# Altium footprint library CN_RJ45_VER.PcbLib: 1 footprints
Each footprint in its own frame and in the unit in brackets; x right, y up, seen from the top. Pads: shape width x height; smd on the part's side, far side on the other; paste and mask are expansions set on the pad; w line width, h text height; cw(c..) or ccw(c..) is an arc to the next point about the centre after c.
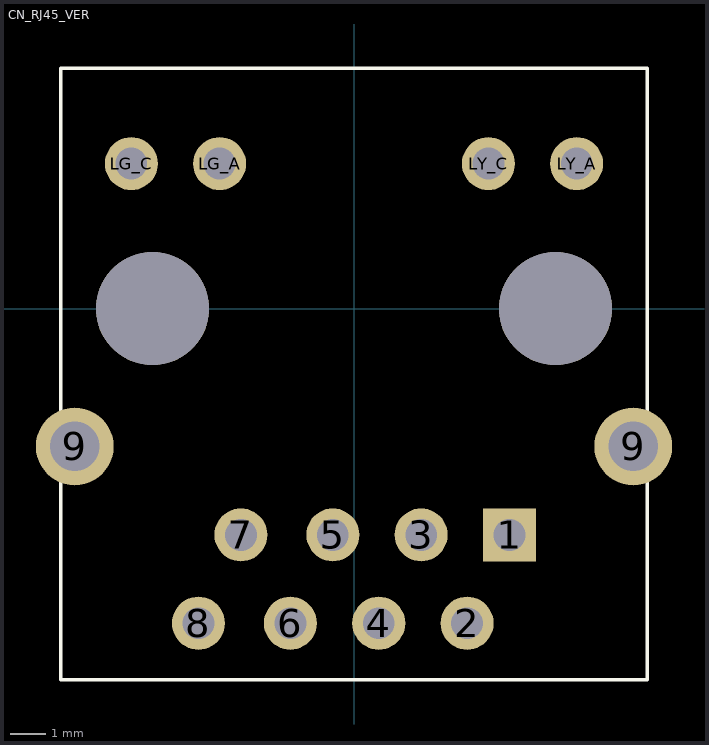
[diagram p0: the footprint, top view; thin cyan lines are the x and y axes]

## CN_RJ45_VER [mm] "Standard RJ45 vertical connector"
pads (16):
  rect 1.5x1.5 hole 0.9: 1(4.4,-6.4)
  round 1.5 hole 0.9: 2(3.2,-8.9) 3(1.9,-6.4) 4(0.7,-8.9) 5(-0.6,-6.4) 6(-1.8,-8.9) 7(-3.2,-6.4) 8(-4.4,-8.9) LG_A(-3.8,4.1) LG_C(-6.3,4.1) LY_A(6.3,4.1) LY_C(3.8,4.1)
  round 2.2 hole 1.4: 9(-7.9,-3.9) 9(7.9,-3.9)
  round 3.2 hole 3.2 unplated: ""(-5.7,0) ""(5.7,0)
Top Overlay:
  lines w0.1: -8.3,-10.5 -8.3,6.8 8.3,6.8 8.3,-10.5 -8.3,-10.5
3D body: height 16.67, standoff -3.3, extent -8.025,-10.25 8.025,6.45